# EAGLE library part SFH7072 (library (custom)-new-components)
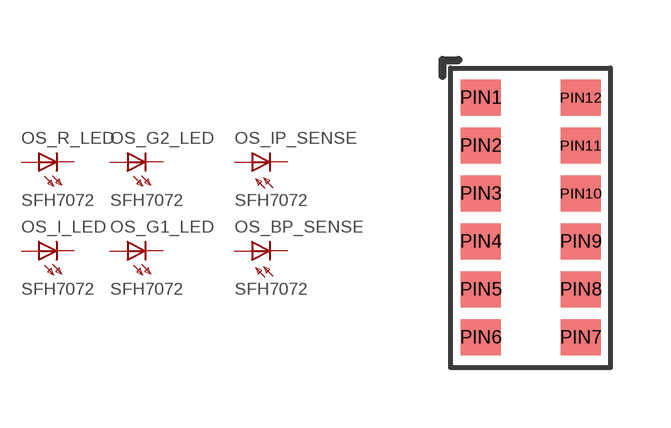
[diagram p12: symbol with the pads of SFH7072; footprint SFH7072]

Designator prefix OS_; gates IP_SENSE=PHOTODIODE BP_SENSE=PHOTODIODE G2_LED=LED G1_LED=LED I_LED=LED R_LED=LED

## SFH7072  [SFH7072]
PIN1  BP_SENSE:C  pas
PIN2  BP_SENSE:A  pas
PIN3  IP_SENSE:C  pas
PIN4  I_LED:A  pas
PIN5  G1_LED:A  pas
PIN6  G1_LED:C  pas
PIN7  R_LED:A  pas
PIN8  R_LED:C  pas
PIN9  I_LED:C  pas
PIN10  IP_SENSE:A  pas
PIN11  G2_LED:A  pas
PIN12  G2_LED:C  pas

## Footprint SFH7072 (pad centres in mm)
smd 1 x 0.9: PIN1 0.56,6.46; PIN2 0.56,5.26; PIN3 0.56,4.06; PIN4 0.56,2.86; PIN5 0.56,1.66; PIN6 0.56,0.46; PIN7 3.06,0.46; PIN8 3.06,1.66; PIN9 3.06,2.86; PIN10 3.06,4.06; PIN11 3.06,5.26; PIN12 3.06,6.46